# Altium integrated library FSC Amplifier Buffer.IntLib: 2 symbols
Pins are listed as number, name and electrical type; pins without a type are passive.

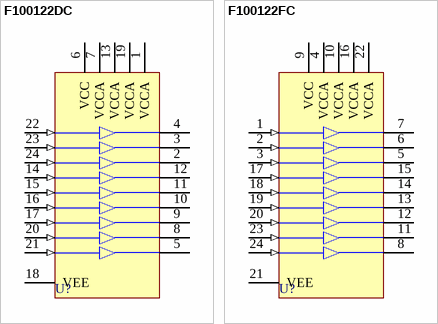
[diagram p0: symbols F100122DC to F100122FC]

## F100122DC
designator U?
9-Bit Buffer; Published: 17-Jul-2002; LatestRevisionDate: 04-Mar-2005; LatestRevisionNote: Stylized 3D Model Added.; DatasheetVersion: 1986; PackageVersion: 1986; PackageReference: 6Y; Publisher: Altium Limited; PackageDescription: DIP; 24 Leads; Row Spacing 10.16 mm; Pitch 2.54 mm; ComponentLink1Description: Manufacturer Link; ComponentLink1URL: http://www.fairchildsemi.com/
footprint 6Y (DIP; 24 Leads; Row Spacing 10.16 mm; Pitch 2.54 mm)
3D model 6Y (DIP; 24 Leads; Row Spacing 10.16 mm; Pitch 2.54 mm)
pins: 1 VCCA (power), 2 O3 (oe), 3 O2 (oe), 4 O1 (oe), 5 O9 (oe), 6 VCC (power), 7 VCCA (power), 8 O8 (oe), 9 O7 (oe), 10 O6 (oe), 11 O5 (oe), 12 O4 (oe), 13 VCCA (power), 14 D4 (in), 15 D5 (in), 16 D6 (in), 17 D7 (in), 18 VEE (power), 19 VCCA (power), 20 D8 (in), 21 D9 (in), 22 D1 (in), 23 D2 (in), 24 D3 (in)

## F100122FC
designator U?
9-Bit Buffer; Published: 17-Jul-2002; LatestRevisionDate: 13-Apr-2006; LatestRevisionNote: IPC-7351 Footprint Added.; DatasheetVersion: 1986; PackageVersion: 1986; PackageReference: 4V; Publisher: Altium Limited; PackageDescription: 100-Pin Quad Cerpak 1.27 mm Pitch; ComponentLink1Description: Manufacturer Link; ComponentLink1URL: http://www.fairchildsemi.com/
footprint 4V_N (CQFP, 24-Leads, Body 10x10mm; Pitch 1.27mm, Gullwing Leadform, IPC Medium Density)
footprint 4V_L (CQFP, 24-Leads, Body 10x10mm; Pitch 1.27mm, Gullwing Leadform, IPC High Density)
footprint 4V_M (CQFP, 24-Leads, Body 10x10mm; Pitch 1.27mm, Gullwing Leadform, IPC Low Density)
3D model F100122-4V (100-Pin Quad Cerpak 1.27 mm Pitch)
pins: 1 D1 (in), 2 D2 (in), 3 D3 (in), 4 VCCA (power), 5 O3 (oe), 6 O2 (oe), 7 O1 (oe), 8 O9 (oe), 9 VCC (power), 10 VCCA (power), 11 O8 (oe), 12 O7 (oe), 13 O6 (oe), 14 O5 (oe), 15 O4 (oe), 16 VCCA (power), 17 D4 (in), 18 D5 (in), 19 D6 (in), 20 D7 (in), 21 VEE (power), 22 VCCA (power), 23 D8 (in), 24 D9 (in)